# Altium footprint library KEMET_T491A_Capacitor.PcbLib: 1 footprints
Each footprint in its own frame and in the unit in brackets; x right, y up, seen from the top. Pads: shape width x height; smd on the part's side, far side on the other; paste and mask are expansions set on the pad; w line width, h text height; cw(c..) or ccw(c..) is an arc to the next point about the centre after c.
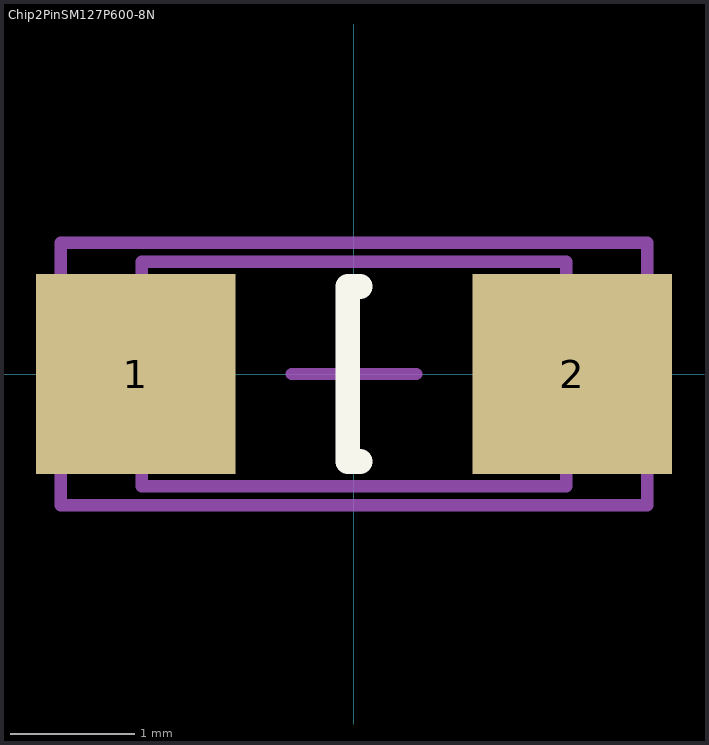
[diagram p0: the footprint, top view; thin cyan lines are the x and y axes]

## Chip2PinSM127P600-8N [mm] "KEMET 491A Tantalum Capacitor footprint"
height 0.8
pads (2):
  rect 1.6x1.6 smd: 1(-1.75,0) 2(1.75,0)
Top Overlay:
  lines w0.2: 0.05,-0.7 -0.05,-0.7 -0.05,0.7 0.05,0.7
Mechanical 13:
  lines w0.1: -1.7,-0.9 -1.7,0.9 1.7,0.9 1.7,-0.9 -1.7,-0.9
Mechanical 15:
  lines w0.1: -0.5,0 0.5,0 ; 0,-0.5 0,0.5 ; -2.35,-1.05 -2.35,1.05 2.35,1.05 2.35,-1.05 -2.35,-1.05
3D body: height 0.8, standoff 0, extent -1.7,-0.9 1.7,0.9